# Altium footprint library 器件封装.PCBLIB: 225 footprints (part 3 of 15)
Each footprint in its own frame and in the unit in brackets; x right, y up, seen from the top. Pads: shape width x height; smd on the part's side, far side on the other; paste and mask are expansions set on the pad; w line width, h text height; cw(c..) or ccw(c..) is an arc to the next point about the centre after c.
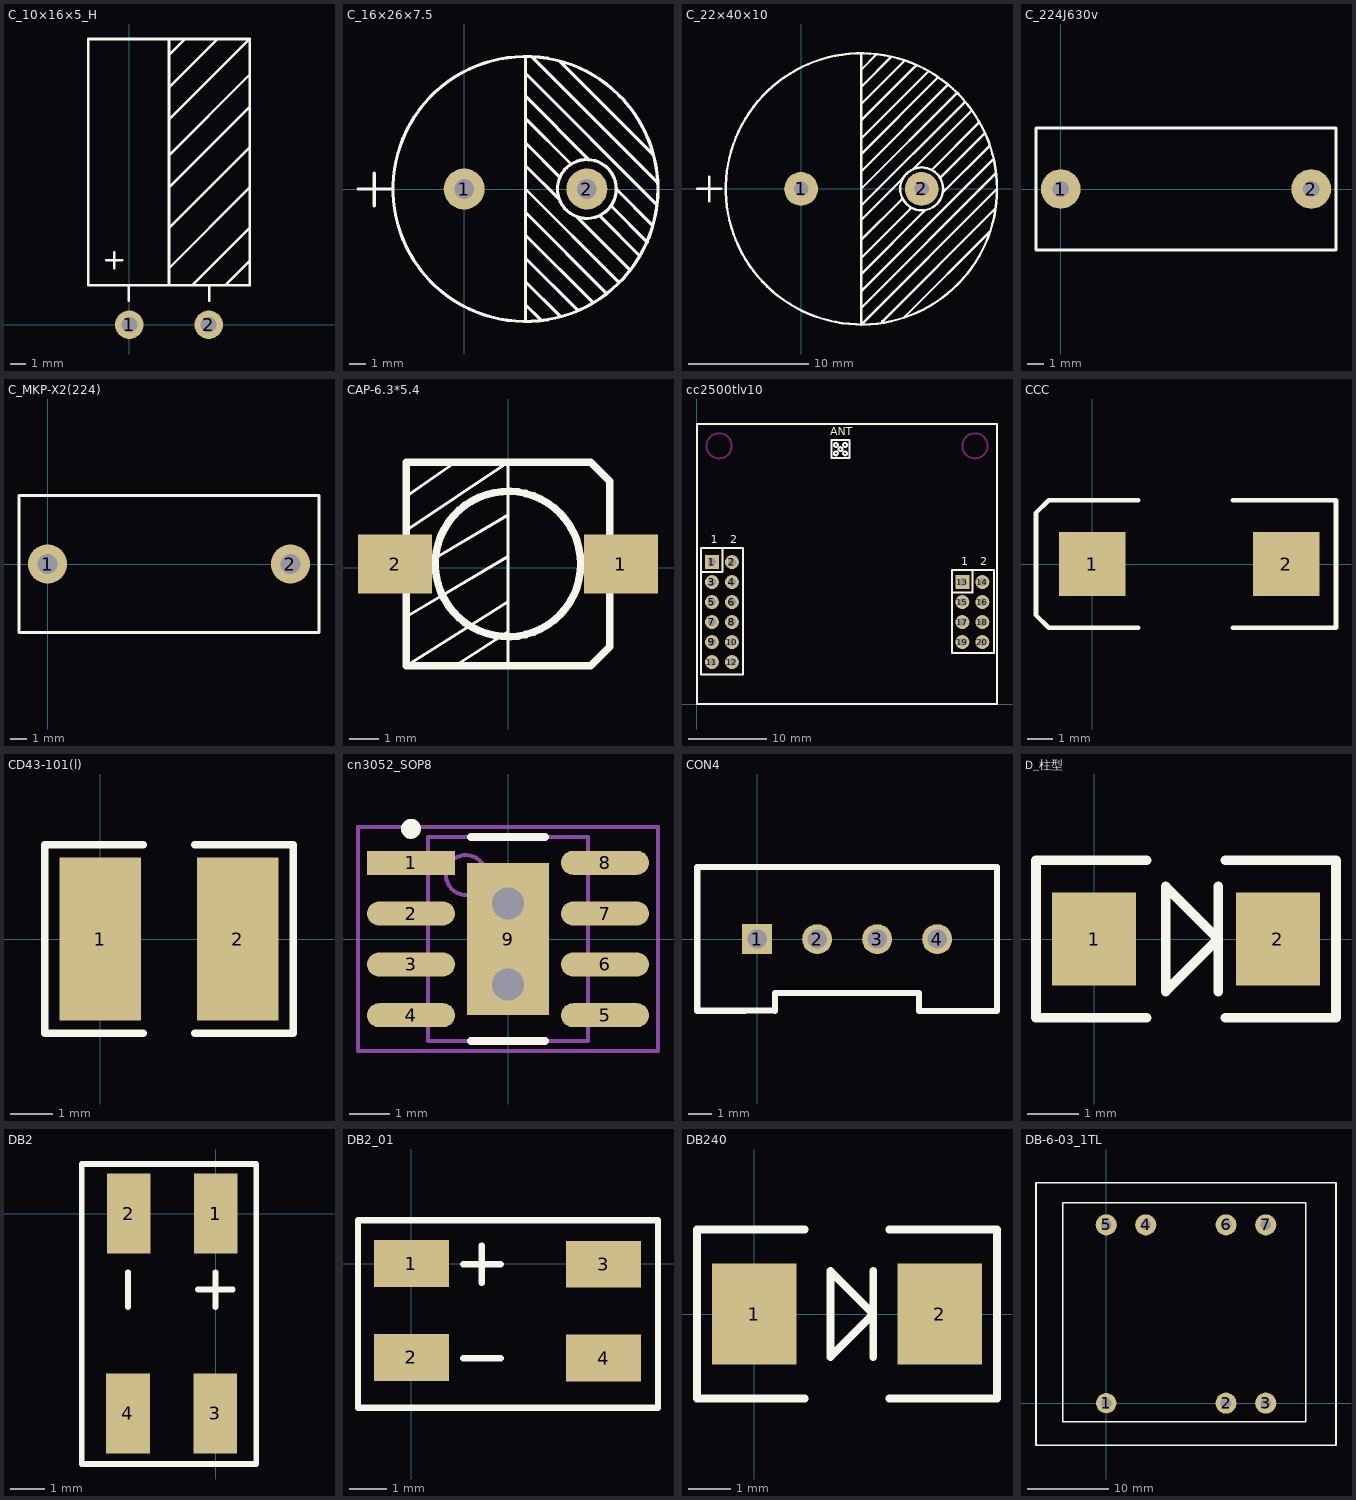
[diagram p2: the footprints below, top view; thin cyan lines are the x and y axes]

## C_10×16×5_H [mm]
pads (2):
  round 1.8 hole 1: 1(0,0) 2(5,0)
TopOverlay:
  lines w0.16: -1.46,4.064 -0.46,4.064 ; -0.96,3.564 -0.96,4.564 ; -0.04,1.5 -0.04,2.5 ; 2.5,2.5 2.5,18 ; 2.5,3.556 7.58,8.636 ; 2.5,6.096 7.58,11.176 ; 2.5,8.636 7.58,13.716 ; 2.5,10.668 7.58,15.748 ; 2.5,12.92 7.58,18 ; 2.5,14.952 5.548,18 ; 2.5,16.984 3.516,18 ; 4.024,2.54 7.58,6.096 ; 5.04,1.5 5.04,2.5 ; 6.056,2.5 7.58,4.024 ; 7.58,18 -2.58,18 -2.58,2.5 7.58,2.5 7.58,18

## C_16×26×7.5 [mm]
pads (2):
  round 2.5 hole 1.2: 1(0,0) 2(7.5,0)
TopOverlay:
  circle w0.2: c7.5,0 r1.8
  circle w0.2: c3.75,0 r8.1
  lines w0.2: -6.49,0 -4.49,0 ; -5.5,-1.04 -5.5,0.96 ; 3.75,-8 3.75,8 ; 3.75,-7.071 4.669,-7.99 ; 3.75,-5.657 5.871,-7.778 ; 3.75,-4.243 6.932,-7.425 ; 3.75,-2.828 7.851,-6.93 ; 3.75,-1.414 8.7,-6.364 ; 3.75,0 9.407,-5.657 ; 3.75,1.414 5.77,-0.6 ; 3.75,2.828 5.81,0.76 ; 3.75,7.071 11.74,-0.919 ; 3.752,5.659 7.639,1.768 ; 3.79,4.263 6.5,1.56 ; 4.174,8.061 11.811,0.424 ; 5.871,7.778 11.528,2.121 ; 6.932,-1.768 10.114,-4.95 ; 8.294,-1.646 10.75,-4.11 ; 8.961,-1.009 11.2,-3.25 ; 9.3,0 11.5,-2.21

## C_22×40×10 [mm]
pads (2):
  round 2.8 hole 1.2: 1(0,0) 2(10,0)
TopOverlay:
  circle w0.2: c5,0 r11.25
  lines w0.2: -8.636,0 -6.604,0 ; -7.62,-1.016 -7.62,1.016 ; 4.972,2.857 11.329,9.214 ; 4.993,0.007 12.891,7.905 ; 4.993,1.45 12.113,8.57 ; 4.993,4.179 10.572,9.758 ; 5,-11.27 5,11.24 ; 5,-1.36 13.542,7.17 ; 5.007,-9.864 16.094,1.223 ; 5.007,-4.193 8.36,-0.86 ; 5.007,-2.567 8.4,0.84 ; 5.021,-8.478 15.889,2.39 ; 5.021,5.706 9.497,10.182 ; 5.028,7.085 8.592,10.649 ; 5.028,8.499 7.496,10.967 ; 5.028,9.928 6.266,11.165 ; 5.04,-7.01 10.2,-1.85 10.2,-1.78 ; 5.04,-5.67 9.06,-1.65 9.06,-1.62 ; 5.085,-11.172 16.151,-0.106 ; 6.747,-10.995 16.024,-1.718 ; 8.223,-0.024 ccw(c10,0) 8.222,0.017 ; 8.592,-10.607 15.677,-3.521 ; 9.3,1.64 14.164,6.52 ; 10.84,1.58 14.765,5.494 ; 11.56,0.92 11.56,0.94 15.18,4.56 ; 11.74,-0.32 15.62,3.56 15.62,3.64

## C_224J630v [mm]
pads (2):
  round 2.4 hole 1: 1(0,0) 2(15.2,0)
TopOverlay:
  lines w0.2: -1.5,-3.7 16.7,-3.7 16.7,3.7 -1.5,3.7 -1.5,-3.7

## C_MKP-X2(224) [mm]
pads (2):
  round 2.4 hole 1.2: 1(0,0) 2(14.9,0)
TopOverlay:
  lines w0.2: -1.75,-4.2 -1.75,4.2 16.65,4.2 16.65,-4.2 -1.75,-4.2

## CAP-6.3*5.4 [mm]
pads (2):
  rect 2.5x2 smd: 1(3.81,0.127) 2(-3.81,0.127)
TopOverlay:
  circle w0.254: c0,0.127 r2.453
  lines w0.1: -3.429,-3.302 0,-1.143 ; -3.429,-1.651 0,0.381 ; -3.429,-0.254 0,1.778 ; -3.429,1.27 0,3.556 0,-3.302 ; -3.429,2.413 -1.778,3.556 ; -1.778,-3.302 0,-2.159
  lines w0.254: -3.429,-3.302 -3.429,3.556 2.794,3.556 3.429,2.921 3.429,-2.667 2.794,-3.302 -3.429,-3.302

## cc2500tlv10 [mil]
pads (20):
  rect 70x70 hole 40: 1(74.88,710.24) 13(1326.85,610.24)
  round 70 hole 40: 2(174.88,710.24) 3(74.88,610.24) 4(174.88,610.24) 5(74.88,510.24) 6(174.88,510.24) 7(74.88,410.24) 8(174.88,410.24) 9(74.88,310.24) 10(174.88,310.24) 11(74.88,210.24) 12(174.88,210.24) 14(1426.85,610.24) 15(1326.85,510.24) 16(1426.85,510.24) 17(1326.85,410.24) 18(1426.85,410.24) 19(1326.85,310.24) 20(1426.85,310.24)
TopOverlay:
  circle w10: c740.38,1254.01 r9.69
  circle w10: c740.38,1296.01 r9.69
  circle w10: c717.38,1275.01 r9.69
  circle w10: c694.38,1254.01 r9.69
  circle w10: c694.38,1296.01 r9.69
  lines w10: 20.08,661.01 127.08,661.01 127.08,780.01 ; 1274.08,559.01 1377.08,559.01 1377.08,672.01 ; 0.08,0.01 0.08,1401.58 1500.08,1401.58 1500.08,0.01 0.08,0.01 ; 20.08,148.01 20.08,780.01 230.08,780.01 230.08,148.01 20.08,148.01 ; 672.08,1232.01 672.08,1320.01 763.08,1320.01 763.08,1232.01 672.08,1232.01 ; 1274.08,255.01 1484.08,255.01 1484.08,672.01 1274.08,672.01 1274.08,255.01
  text "ANT" at 667.08,1344.01 h40
  text "1" at 69.08,804.01 h40
  text "2" at 165.08,804.01 h40
  text "2" at 1416.08,694.01 h40
  text "1" at 1322.08,694.01 h40
KeepOutLayer:
  circle w10: c110.31,1291.35 r62.99
  circle w10: c1389.84,1291.35 r62.99

## CCC [mm]
pads (2):
  rect 2.6x2.5 smd: 1(0,0) 2(7.6,0)
TopOverlay:
  lines w0.18: 1.8,-2.5 -1.7,-2.5 -2.2,-2 -2.2,2 -1.7,2.5 1.8,2.5 ; 5.5,-2.5 9.5,-2.5 ; 5.5,2.5 9.5,2.5 ; 9.546,-2.5 9.546,2.5

## CD43-101(l) [mm]
pads (2):
  rect 1.9x3.8 smd: 1(0,0) 2(3.2,0)
TopOverlay:
  lines w0.17: 1,-2.2 -1.3,-2.2 -1.3,2.2 1,2.2 ; 2.2,-2.2 4.5,-2.2 4.5,2.2 2.2,2.2

## cn3052_SOP8 [mm]
height 1.75
pads (9):
  rect 2.2x0.6 smd: 1(-2.425,1.905)
  oval 2.2x0.6 smd: 2(-2.425,0.635) 3(-2.425,-0.635) 4(-2.425,-1.905) 5(2.425,-1.905) 6(2.425,-0.635) 7(2.425,0.635) 8(2.425,1.905)
  rect 2.05x3.8 smd: 9(0,0)
via 0,-1.143 diameter 1.2 hole 0.8
via 0,0.889 diameter 1.2 hole 0.8
TopOverlay:
  circle w0.25: c-2.425,2.755 r0.125
  lines w0.2: -0.925,-2.55 0.925,-2.55 ; -0.925,2.55 0.925,2.55
Mechanical13:
  circle w0.1: c-1.05,1.6 r0.5
  lines w0.1: -2,-2.55 2,-2.55 2,2.55 -2,2.55 -2,-2.55
Mechanical15:
  lines w0.1: -0.5,0 0.5,0 ; 0,-0.5 0,0.5 ; -3.75,-2.8 3.75,-2.8 3.75,2.8 -3.75,2.8 -3.75,-2.8
3D body: height 1.75, standoff 0.1, extent -2,-2.55 2,2.55

## CON4 [mil]
pads (4):
  rect 50x50 hole 32: 1(0,0)
  round 50 hole 32: 2(100,0) 3(200,0) 4(300,0)
TopOverlay:
  lines w10: -99.65,120.23 -99.65,-119.13 ; -20.32,-119.8 -100.32,-119.8 -99.65,-119.13 ; 200.02,-10 199.98,10 ; 299.72,-9.77 299.68,10.23 ; 300.02,-10 299.98,10 ; 399.65,-119.77 269.7,-119.77 ; 399.68,-119.8 399.68,120.23 -100.3,120.23 ; -100.32,120.25 -100.3,120.23 ; -100.32,120.25 -100.32,-118.46 -99.65,-119.13 ; -100.32,120.25 299.68,120.25 ; -99.65,-119.13 29.01,-119.13 29.68,-119.8 29.68,-89.77 269.68,-89.77 269.68,-119.75 ; 269.68,-119.75 269.7,-119.77 ; 299.68,120.25 299.7,120.23 ; 299.68,-119.8 299.7,-119.78

## D_柱型 [mm]
pads (2):
  rect 1.62x1.8 smd: 1(0,0) 2(3.556,0)
TopOverlay:
  lines w0.185: 1.016,-1.524 -1.122,-1.524 -1.122,1.524 1.016,1.524 ; 2.4,-1.016 2.4,1.016 ; 2.54,-1.524 4.678,-1.524 4.678,1.524 2.54,1.524 ; 1.384,-1.016 1.384,1.016 2.4,0 1.384,-1.016

## DB2 [mil]
pads (4):
  rect 50x91.81 smd: 1(0,0) 2(-100,0) 3(-0.7,-228.77) 4(-100.7,-228.77)
TopOverlay:
  lines w6.69: -100.79,-107.09 -100.79,-67.09 ; -20.62,-87.09 19.38,-87.09 ; -0.62,-107.08 -0.62,-67.08 ; -153.7,-286.77 -153.7,56.85 46.3,56.85 46.3,-286.77 -153.7,-286.77

## DB2_01 [mil]
pads (4):
  rect 80x50 smd: 1(0,0) 2(0,-100) 3(205.15,-0.7) 4(205.15,-100.7)
TopOverlay:
  lines w6.69: 55.27,-0.62 95.27,-0.62 ; 55.28,-100.79 95.28,-100.79 ; 75.28,-20.62 75.28,19.38 ; -56.85,-153.7 -56.85,46.3 263.15,46.3 263.15,-153.7 -56.85,-153.7

## DB240 [mm]
pads (2):
  rect 2x2.4 smd: 1(0,0) 2(4.4,0)
TopOverlay:
  lines w0.185: 1.2,-2 -1.35,-2 -1.35,2 1.2,2 ; 2.822,-1.016 2.822,1.016 ; 3.2,-2 5.75,-2 5.75,2 3.2,2 ; 1.806,-1.016 1.806,1.016 2.822,0 1.806,-1.016

## DB-6-03_1TL [mm]
pads (8):
  round 2.5 hole 1.3: 1(0,0)
  round 2.6 hole 1.3: 2(14.77,0) 3(19.67,0) 4(4.87,22) 5(0,22) 6(14.77,22) 7(19.67,22)
  round 0 all layers, no hole: 5(4.87,0)
TopOverlay:
  lines w0.2: -5.38,-2.27 -5.38,24.73 24.62,24.73 24.62,-2.27 -5.272,-2.27 ; -8.665,-5.2 28.335,-5.2 28.335,27.2 -8.665,27.2 -8.665,-5.2